# Altium footprint library PcbLib1.PcbLib: 11 footprints
Each footprint in its own frame and in the unit in brackets; x right, y up, seen from the top. Pads: shape width x height; smd on the part's side, far side on the other; paste and mask are expansions set on the pad; w line width, h text height; cw(c..) or ccw(c..) is an arc to the next point about the centre after c.
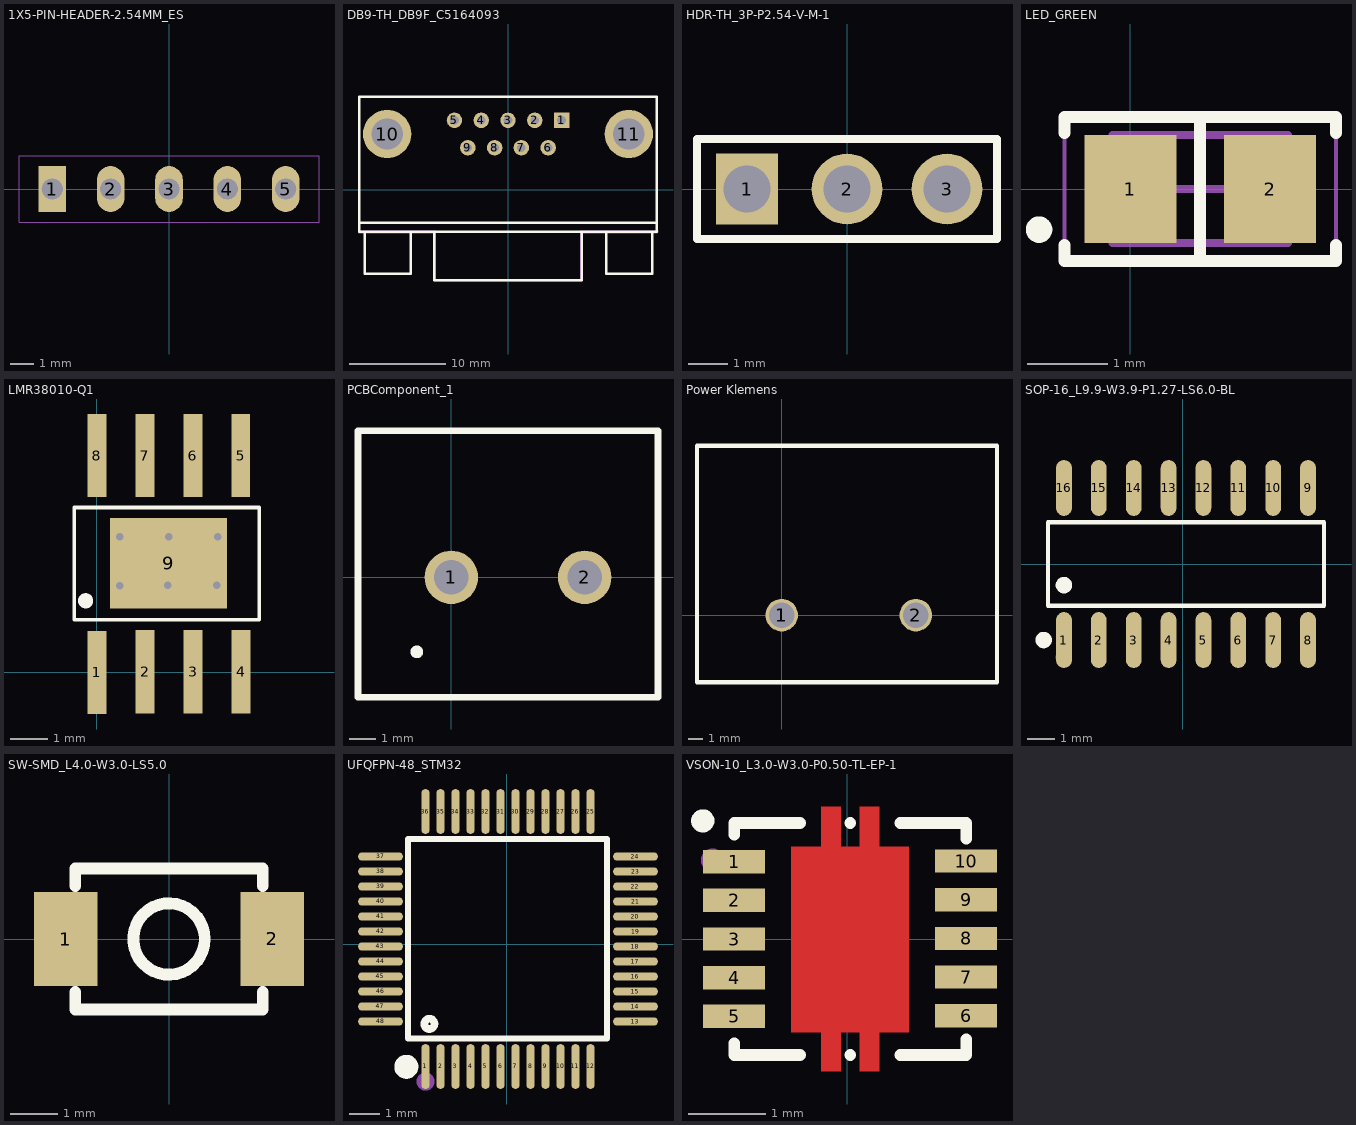
[diagram p0: the footprints below, top view; thin cyan lines are the x and y axes]

## 1X5-PIN-HEADER-2.54MM_ES [mm]
pads (5):
  rect 1.2x2 hole 0.9 slot 0.9 at 90 deg paste+0 mask+0.102: 1(-5.08,0)
  oval 1.2x2 hole 0.9 slot 0.9 at 90 deg paste+0 mask+0.102: 2(-2.54,0) 3(0,0) 4(2.54,0) 5(5.08,0)
Mechanical 1:
  lines w0.05: -5.334,0 -4.826,0 ; -5.08,-0.254 -5.08,0.254 ; -6.528,-1.448 -6.528,1.448 6.528,1.448 6.528,-1.448 -6.528,-1.448

## DB9-TH_DB9F_C5164093 [mm]
pads (11):
  rect 1.6x1.6 hole 0.9 paste+0 mask+0.051: 1(5.54,7.195)
  round 1.6 hole 0.9 paste+0 mask+0.051: 2(2.77,7.195) 3(0,7.195) 4(-2.77,7.195) 5(-5.54,7.195) 6(4.155,4.355) 7(1.385,4.355) 8(-1.385,4.355) 9(-4.155,4.355)
  round 5 hole 3.25 paste+0 mask+0.051: 10(-12.5,5.776) 11(12.5,5.776)
Top Overlay:
  lines w0.254: -15.4,-3.388 15.4,-3.388 ; -14.839,-4.354 -14.839,-8.664 -10.074,-8.664 -10.074,-4.354 ; -7.622,-4.354 -7.622,-9.354 7.62,-9.354 7.62,-4.354 ; 10.159,-4.354 10.159,-8.674 14.924,-8.674 14.924,-4.354 ; -15.4,-4.354 -15.4,9.645 15.4,9.645 15.4,-4.354 -15.4,-4.354
Mechanical 15:
  region: -15.52,-4.234 -15.52,-4.385 -15.43,-4.474 -7.74,-4.474 -7.74,-9.384 -7.65,-9.474 7.65,-9.474 7.74,-9.384 7.74,-4.474 15.43,-4.474 15.52,-4.384 15.52,-4.234 7.5,-4.234 7.5,-9.234 -7.5,-9.234 -7.5,-4.234
3D body "User Library-DB9_ST4.STEP": height 12.25, standoff -4.05, extent -15.405,-9.75 15.405,9.45

## HDR-TH_3P-P2.54-V-M-1 [mm]
pads (3):
  rect 1.575x1.8 hole 1.2 paste+0 mask+0.051: 1(-2.54,0)
  round 1.8 hole 1.2 paste+0 mask+0.051: 2(0,0) 3(2.54,0)
Top Overlay:
  lines w0.203: -3.81,-1.27 3.81,-1.27 3.81,1.27 -1.905,1.27 -3.81,1.27 -3.81,-1.27
3D body "User Library-1x3 TH Pitch 2_54mm.STEP": height 9.2, standoff -3.5, extent -3.87,-1.25 3.75,1.29

## LED_GREEN [mm]
pads (2):
  rect 1.15x1.35 smd: 1(0,0) 2(1.75,0)
Top Overlay:
  circle w0.254: c-1.143,-0.508 r0.038
  lines w0.15: -0.825,-0.7 -0.825,-0.9 2.575,-0.9 2.575,-0.7 ; -0.825,0.7 -0.825,0.9 2.575,0.9 2.575,0.7 ; 0.875,-0.9 0.875,0.9
Mechanical 13:
  lines w0.1: -0.225,-0.675 -0.225,0.675 1.975,0.675 1.975,-0.675 -0.225,-0.675
Mechanical 15:
  lines w0.05: -0.825,-0.95 -0.825,0.95 2.575,0.95 2.575,-0.95 -0.825,-0.95
  lines w0.1: 0.375,0 1.375,0 ; 0.875,-0.5 0.875,0.5
3D body "LED-0805-green.step": height 0.8, standoff -0.01, extent -0.125,-0.625 1.875,0.625

## LMR38010-Q1 [mm]
pads (9):
  rect 0.5x2.2 smd: 1(0,0) 2(1.277,0.02) 3(2.547,0.02) 4(3.817,0.02) 5(3.81,5.75) 6(2.54,5.75) 7(1.27,5.75) 8(0,5.75)
  rect 3.1x2.4 smd: 9(1.9,2.9)
via 3.178,2.312 diameter 0.33 hole 0.2
via 1.878,2.312 diameter 0.33 hole 0.2
via 0.6,2.3 diameter 0.33 hole 0.2
via 0.6,3.6 diameter 0.33 hole 0.2
via 3.2,3.6 diameter 0.33 hole 0.2
via 1.9,3.6 diameter 0.33 hole 0.2
Top Overlay:
  circle w0.2: c-0.3,1.9 r0.1
  lines w0.1: 4.05,1.4 4.3,1.4 ; 4.3,1.4 4.3,4.375 -0.6,4.375 -0.6,1.4 4.3,1.4
3D body "User Library-SOIC-8-2.STEP": height 2.58, standoff 0, extent -0.75,-1.1 4.5,6.9

## PCBComponent_1 [mm]
pads (2):
  round 2 hole 1.3: 1(0,0) 2(5,0)
Top Overlay:
  circle w0.254: c-1.295,-2.794 r0.113
  lines w0.254: -3.5,-4.5 -3.5,5.5 7.75,5.5 7.75,-4.5 -3.5,-4.5
3D body "1715721.stp": height 14.2, standoff -3.5, extent -3.401,-4.5 7.5,5.3

## Power Klemens [mm]
pads (3):
  round 2.3 hole 1.8: 1(0,0) 1(0,0) 2(9.5,0)
Top Overlay:
  lines w0.3: -6,-4.75 15.25,-4.75 15.25,12 -6,12 -6,-4.75
3D body "User Library-Screw terminal block 9_5mm.STEP": height 18.5, standoff -5, extent -5.925,-4.6 15.125,11.9

## SOP-16_L9.9-W3.9-P1.27-LS6.0-BL [mm]
pads (16):
  oval 0.574x2.038 smd paste+0 mask+0.051: 1(-4.329,-2.769) 2(-3.059,-2.769) 3(-1.789,-2.769) 4(-0.519,-2.769) 5(0.751,-2.769) 6(2.021,-2.769) 7(3.291,-2.769) 8(4.561,-2.769) 9(4.561,2.769) 10(3.291,2.769) 11(2.021,2.769) 12(0.751,2.769) 13(-0.519,2.769) 14(-1.789,2.769) 15(-3.059,2.769) 16(-4.329,2.769)
Top Overlay:
  circle w0.3: c-4.329,-0.769 r0.15
  circle w0.3: c-5.068,-2.769 r0.15
  lines w0.152: -4.91,-1.521 -4.91,1.521 5.142,1.521 5.142,-1.521 -4.91,-1.521
Mechanical 15:
  circle w0.3: c-4.329,-3.4 r0.15
3D body "User Library-sop16-1.STEP": height 1.58, standoff 0, extent -4.89,-3.017 5.091,3.217

## SW-SMD_L4.0-W3.0-LS5.0 [mm]
pads (2):
  rect 1.35x2 smd paste+0 mask+0.051: 1(-2.2,0) 2(2.2,0)
Top Overlay:
  circle w0.254: c0,0 r0.762
  lines w0.254: -2,-1.131 -2,-1.5 2,-1.5 2,-1.131 ; -2,1.131 -2,1.5 2,1.5 2,1.131
3D body "User Library-Pushbutton3x4x2.STEP": height -0.6, standoff -2.6, extent -2.325,-1.65 2.575,1.25

## UFQFPN-48_STM32 [mm]
pads (48):
  oval 0.27x1.5 smd paste+0 mask+0.05: 1(-2.703,-4.076) 2(-2.203,-4.076) 3(-1.703,-4.076) 4(-1.203,-4.076) 5(-0.703,-4.076) 6(-0.203,-4.076) 7(0.297,-4.076) 8(0.797,-4.076) 9(1.297,-4.076) 10(1.797,-4.076) 11(2.297,-4.076) 12(2.797,-4.076) 25(2.797,4.424) 26(2.297,4.424) 27(1.797,4.424) 28(1.297,4.424) 29(0.797,4.424) 30(0.297,4.424) 31(-0.203,4.424) 32(-0.703,4.424) 33(-1.203,4.424) 34(-1.703,4.424) 35(-2.203,4.424) 36(-2.703,4.424)
  oval 1.5x0.27 smd paste+0 mask+0.05: 13(4.297,-2.576) 14(4.297,-2.076) 15(4.297,-1.576) 16(4.297,-1.076) 17(4.297,-0.576) 18(4.297,-0.076) 19(4.297,0.424) 20(4.297,0.924) 21(4.297,1.424) 22(4.297,1.924) 23(4.297,2.424) 24(4.297,2.924) 37(-4.203,2.924) 38(-4.203,2.424) 39(-4.203,1.924) 40(-4.203,1.424) 41(-4.203,0.924) 42(-4.203,0.424) 43(-4.203,-0.076) 44(-4.203,-0.576) 45(-4.203,-1.076) 46(-4.203,-1.576) 47(-4.203,-2.076) 48(-4.203,-2.576)
Top Overlay:
  circle w0.254: c-2.573,-2.656 r0.17
  lines w0.2: -2.849,3.514 3.349,3.514 3.349,-3.141 -3.28,-3.141 -3.28,3.514 -2.518,3.514
  lines w0.4: -3.343,-3.886 ccw(c-3.342,-4.086) -3.34,-3.886
Mechanical 15:
  circle w0.3: c-2.703,-4.576 r0.15
3D body "User Library-STM32F103C8T6.STEP": height 1.4, standoff -0.15, extent -4.5,-4.373 4.5,4.627

## VSON-10_L3.0-W3.0-P0.50-TL-EP-1 [mm]
pads (10):
  rect 0.8x0.3 smd paste+0 mask+0.051: 1(-1.46,1.002) 2(-1.46,0.502) 3(-1.46,0.002) 4(-1.46,-0.498) 5(-1.46,-0.997) 6(1.54,-0.99) 7(1.54,-0.49) 8(1.54,0.01) 9(1.54,0.51) 10(1.54,1.01)
Top Layer:
  region: -0.719,1.197 -0.334,1.197 -0.334,1.713 -0.084,1.713 -0.084,1.197 0.166,1.197 0.166,1.713 0.416,1.713 0.416,1.197 0.801,1.197 0.801,-1.203 0.416,-1.203 0.416,-1.708 0.166,-1.708 0.166,-1.203 -0.084,-1.203 -0.084,-1.708 -0.334,-1.708 -0.334,-1.203 -0.719,-1.203 -0.719,0.892 -0.719,0.893
Top Overlay:
  circle w0.15: c-1.865,1.53 r0.075
  lines w0.15: -1.459,-1.347 -1.459,-1.497 -0.608,-1.497 ; -1.459,1.352 -1.459,1.502 -0.608,1.502 ; 0.041,-1.497 0.042,-1.497 ; 0.041,1.502 0.042,1.502 ; 0.691,-1.497 1.541,-1.497 1.541,-1.292 ; 0.691,1.502 1.541,1.502 1.541,1.297
Mechanical 15:
  circle w0.15: c-1.738,1.022 r0.075
3D body "User Library-LM5166YDRC_VSON-DRC10.STEP": height 1, standoff 0, extent -1.46,-1.562 1.66,1.562